# Altium schematic symbol library ufl connector.SchLib: 1 symbol
Pins are listed as number, name and electrical type; pins without a type are passive.

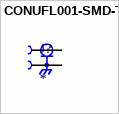
[diagram p0: symbol CONUFL001-SMD-T]

## CONUFL001-SMD-T
designator J?
<a href="https://pricing.snapeda.com/parts/CONUFL001-SMD-T/Linx%20Technologies/view-part?ref=eda">Check availability</a> <a href="https://pricing.snapeda.com/parts/CONUFL001-SMD-T/Linx%20Technologies/view-part?ref=eda">Check availability</a>; Package: None; Price: None; Value: *; MP: CONUFL001-SMD-T; Availability: Unavailable
footprint LINX_CONUFL001-SMD-T
pins: 1, 2, GND 2